# Altium schematic symbol library MSP432.SchLib: 1 symbol
Pins are listed as number, name and electrical type; pins without a type are passive.

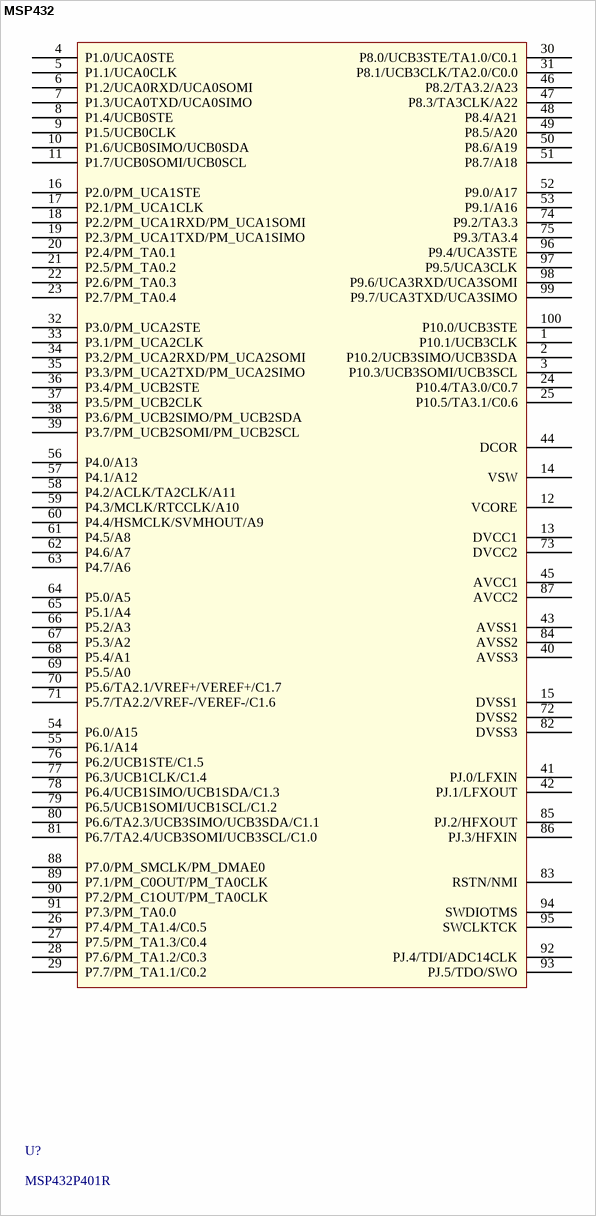
[diagram p0: symbol MSP432]

## MSP432
designator U?, comment MSP432P401R
footprint TSQFP50P1600X1600X160-100N (TSQFP, 100-Leads, Body 14.00x14.00mm, Pitch 0.50mm, IPC Medium Density)
pins: 1 P10.1/UCB3CLK, 2 P10.2/UCB3SIMO/UCB3SDA, 3 P10.3/UCB3SOMI/UCB3SCL, 4 P1.0/UCA0STE, 5 P1.1/UCA0CLK, 6 P1.2/UCA0RXD/UCA0SOMI, 7 P1.3/UCA0TXD/UCA0SIMO, 8 P1.4/UCB0STE, 9 P1.5/UCB0CLK, 10 P1.6/UCB0SIMO/UCB0SDA, 11 P1.7/UCB0SOMI/UCB0SCL, 12 VCORE, 13 DVCC1, 14 VSW, 15 DVSS1, 16 P2.0/PM_UCA1STE, 17 P2.1/PM_UCA1CLK, 18 P2.2/PM_UCA1RXD/PM_UCA1SOMI, 19 P2.3/PM_UCA1TXD/PM_UCA1SIMO, 20 P2.4/PM_TA0.1, 21 P2.5/PM_TA0.2, 22 P2.6/PM_TA0.3, 23 P2.7/PM_TA0.4, 24 P10.4/TA3.0/C0.7, 25 P10.5/TA3.1/C0.6, 26 P7.4/PM_TA1.4/C0.5, 27 P7.5/PM_TA1.3/C0.4, 28 P7.6/PM_TA1.2/C0.3, 29 P7.7/PM_TA1.1/C0.2, 30 P8.0/UCB3STE/TA1.0/C0.1, 31 P8.1/UCB3CLK/TA2.0/C0.0, 32 P3.0/PM_UCA2STE, 33 P3.1/PM_UCA2CLK, 34 P3.2/PM_UCA2RXD/PM_UCA2SOMI, 35 P3.3/PM_UCA2TXD/PM_UCA2SIMO, 36 P3.4/PM_UCB2STE, 37 P3.5/PM_UCB2CLK, 38 P3.6/PM_UCB2SIMO/PM_UCB2SDA, 39 P3.7/PM_UCB2SOMI/PM_UCB2SCL, 40 AVSS3, 41 PJ.0/LFXIN, 42 PJ.1/LFXOUT, 43 AVSS1, 44 DCOR, 45 AVCC1, 46 P8.2/TA3.2/A23, 47 P8.3/TA3CLK/A22, 48 P8.4/A21, 49 P8.5/A20, 50 P8.6/A19, 51 P8.7/A18, 52 P9.0/A17, 53 P9.1/A16, 54 P6.0/A15, 55 P6.1/A14, 56 P4.0/A13, 57 P4.1/A12, 58 P4.2/ACLK/TA2CLK/A11, 59 P4.3/MCLK/RTCCLK/A10, 60 P4.4/HSMCLK/SVMHOUT/A9, 61 P4.5/A8, 62 P4.6/A7, 63 P4.7/A6, 64 P5.0/A5, 65 P5.1/A4, 66 P5.2/A3, 67 P5.3/A2, 68 P5.4/A1, 69 P5.5/A0, 70 P5.6/TA2.1/VREF+/VEREF+/C1.7, 71 P5.7/TA2.2/VREF-/VEREF-/C1.6, 72 DVSS2, 73 DVCC2, 74 P9.2/TA3.3, 75 P9.3/TA3.4, 76 P6.2/UCB1STE/C1.5, 77 P6.3/UCB1CLK/C1.4, 78 P6.4/UCB1SIMO/UCB1SDA/C1.3, 79 P6.5/UCB1SOMI/UCB1SCL/C1.2, 80 P6.6/TA2.3/UCB3SIMO/UCB3SDA/C1.1, 81 P6.7/TA2.4/UCB3SOMI/UCB3SCL/C1.0, 82 DVSS3, 83 RSTN/NMI, 84 AVSS2, 85 PJ.2/HFXOUT, 86 PJ.3/HFXIN, 87 AVCC2, 88 P7.0/PM_SMCLK/PM_DMAE0, 89 P7.1/PM_C0OUT/PM_TA0CLK, 90 P7.2/PM_C1OUT/PM_TA0CLK, 91 P7.3/PM_TA0.0, 92 PJ.4/TDI/ADC14CLK, 93 PJ.5/TDO/SWO, 94 SWDIOTMS, 95 SWCLKTCK, 96 P9.4/UCA3STE, 97 P9.5/UCA3CLK, 98 P9.6/UCA3RXD/UCA3SOMI, 99 P9.7/UCA3TXD/UCA3SIMO, 100 P10.0/UCB3STE